# EAGLE library part ATTINY13 (library my_devices)
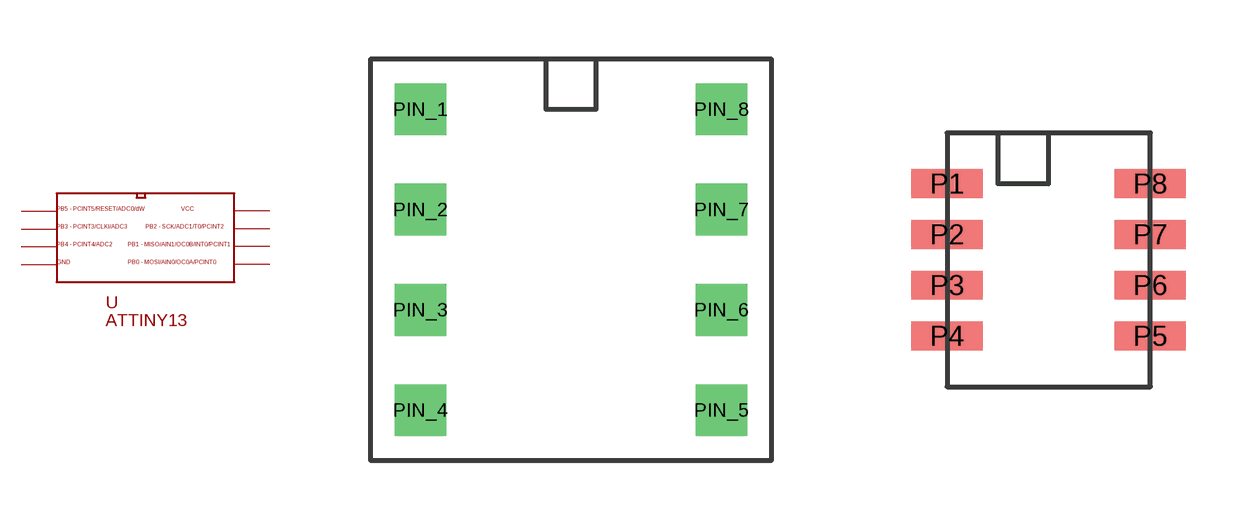
[diagram p15: symbol with the pads of DIP8; footprints DIP8, SO-8]

Designator prefix U

## ATTINY13  [DIP8]
PIN_1  PB5
PIN_2  PB3
PIN_3  PB4
PIN_4  GND  pwr
PIN_5  PB0
PIN_6  PB1
PIN_7  PB2
PIN_8  VCC  pwr

## ATTINY13SO-8  [SO-8]
P1  PB5
P2  PB3
P3  PB4
P4  GND  pwr
P5  PB0
P6  PB1
P7  PB2
P8  VCC  pwr

## ATTINY13SO-8-209  [SO-8-209]
Pads as for SO-8

## Footprint DIP8 (pad centres in mm)
drill 0.8 square: PIN_1 -3.81,3.81; PIN_2 -3.81,1.27; PIN_3 -3.81,-1.27; PIN_4 -3.81,-3.81; PIN_5 3.81,-3.81; PIN_6 3.81,-1.27; PIN_7 3.81,1.27; PIN_8 3.81,3.81

## Footprint SO-8 (pad centres in mm)
smd 1.78 x 0.72: P1 -2.54,2.54; P2 -2.54,1.27; P3 -2.54,0; P4 -2.54,-1.27; P5 2.54,-1.27; P6 2.54,0; P7 2.54,1.27; P8 2.54,2.54

## Footprint SO-8-209 (pad centres in mm)
smd 2.2 x 0.72: P1 -3.04,2.54; P2 -3.04,1.27; P3 -3.04,0; P4 -3.04,-1.27; P5 3.04,-1.27; P6 3.04,0; P7 3.04,1.27; P8 3.04,2.54